# EAGLE library part TCAN334G (library fdcanusb)
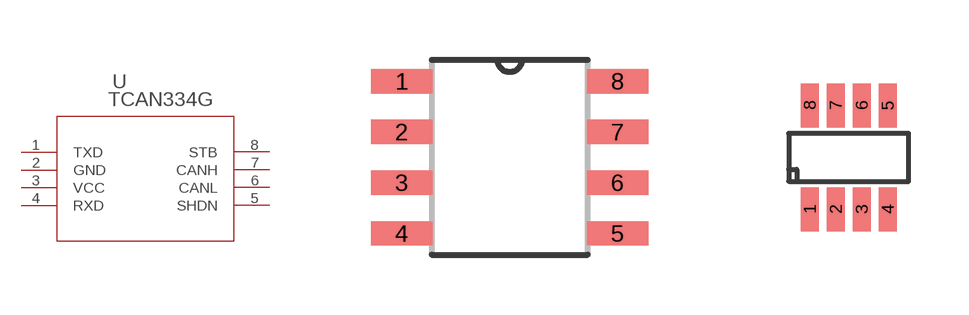
[diagram p1: symbol with the pads of SOIC8; footprints SOIC8, SOT23-8]

Designator prefix -

## TCAN334G  [SOIC8]
1  TXD  in
2  GND  pwr
3  VCC  pwr
4  RXD  out
5  SHDN  in
6  CANL
7  CANH
8  STB  in

## TCAN334GSOT23  [SOT23-8]
Pads as for SOIC8

## Footprint SOIC8 (pad centres in mm)
smd 1.549 x 0.61: 1 -2.7,1.905; 2 -2.7,0.635; 3 -2.7,-0.635; 4 -2.7,-1.905; 5 2.7,-1.905; 6 2.7,-0.635; 7 2.7,0.635; 8 2.7,1.905

## Footprint SOT23-8 (pad centres in mm)
smd 0.45 x 1.1: 1 -0.975,-1.3; 2 -0.325,-1.3; 3 0.325,-1.3; 4 0.975,-1.3; 5 0.975,1.3; 6 0.325,1.3; 7 -0.325,1.3; 8 -0.975,1.3